# Altium schematic symbol library PS2501.SchLib: 1 symbol
Pins are listed as number, name and electrical type; pins without a type are passive.

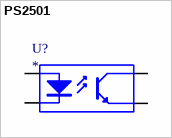
[diagram p0: symbol PS2501]

## PS2501
designator U?
Datasheet: https://datasheet.octopart.com/PS2501L-1-E3-NEC-datasheet-131621.pdf; Package: DIP4
footprint PS2501
pins: 1 A "Anode", 2 K "Cathode", 3 E "Emitter", 4 C "Collector"